# Altium footprint library CUI_PJ-202AH.PcbLib: 1 footprints
Each footprint in its own frame and in the unit in brackets; x right, y up, seen from the top. Pads: shape width x height; smd on the part's side, far side on the other; paste and mask are expansions set on the pad; w line width, h text height; cw(c..) or ccw(c..) is an arc to the next point about the centre after c.
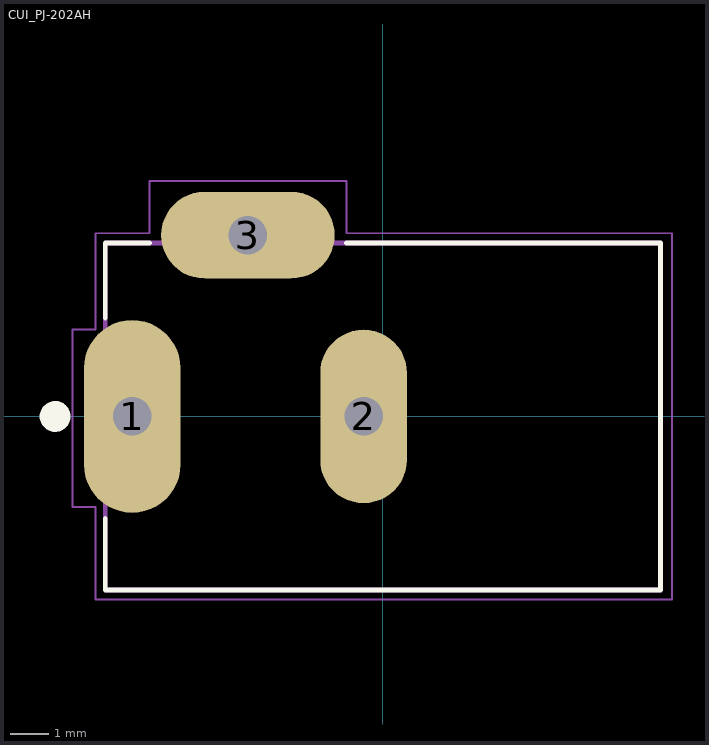
[diagram p0: the footprint, top view; thin cyan lines are the x and y axes]

## CUI_PJ-202AH [mm]
pads (3):
  oval 2.5x5 hole 1 square: 1(-6.5,0)
  oval 2.25x4.5 hole 1 square: 2(-0.5,0)
  oval 4.5x2.25 hole 1 square: 3(-3.5,4.7)
Top Overlay:
  circle w0.4: c-8.5,0 r0.2
  lines w0.127: -7.2,-2.65 -7.2,-4.5 7.2,-4.5 7.2,4.5 -0.95,4.5 ; -7.2,2.55 -7.2,4.5 -6.05,4.5
Mechanical 13:
  lines w0.127: -7.2,-4.5 7.2,-4.5 7.2,4.5 -7.2,4.5 -7.2,-4.5
Mechanical 15:
  lines w0.05: -8.05,-2.35 -8.05,2.25 -7.45,2.25 -7.45,4.75 -6.05,4.75 -6.05,6.1 -0.95,6.1 -0.95,4.75 7.5,4.75 7.5,-4.75 -7.45,-4.75 -7.45,-2.35 -8.05,-2.35